# EAGLE library part LS7084 (library RadioStack_v2)
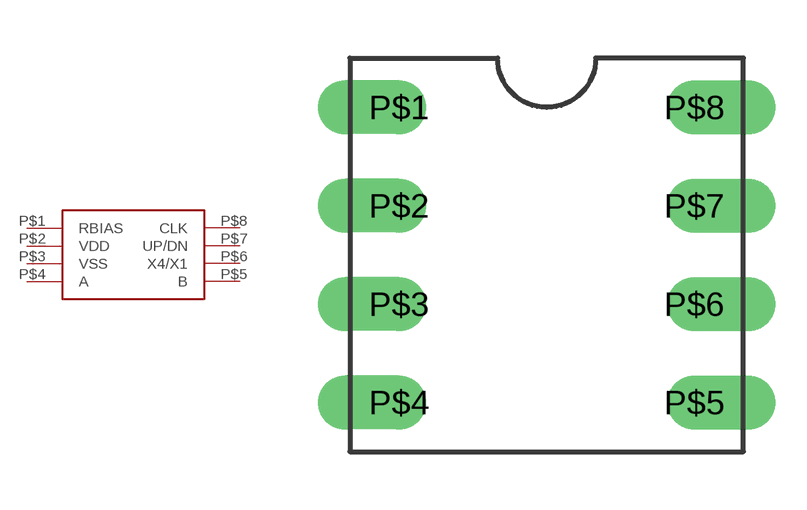
[diagram p11: symbol with the pads of LS7084; footprint LS7084]

Designator prefix -

## LS7084  [LS7084]
P$1  RBIAS
P$2  VDD
P$3  VSS
P$4  A
P$5  B
P$6  X4/X1
P$7  UP/DN
P$8  CLK

## Footprint LS7084 (pad centres in mm)
drill 0.889 pad 1.27 offset: P$1 0,0; P$2 0,-2.54; P$3 0,-5.08; P$4 0,-7.62; P$5 7.62,-7.62; P$6 7.62,-5.08; P$7 7.62,-2.54; P$8 7.62,0